# Altium integrated library JAE_WP66DK.IntLib: 2 symbols
Pins are listed as number, name and electrical type; pins without a type are passive.

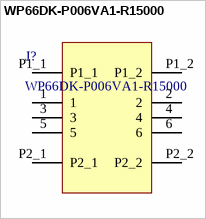
[diagram p0: symbol WP66DK-P006VA1-R15000]

## WP66DK-P006VA1-R15000
designator J?
6 Position Connector Plug, Outer Shroud Contacts Surface Mount Gold; Manufacturer_Name: JAE Electronics; Package: None; Price: None; Value: *; Manufacturer_Part_Number: WP66DK-P006VA1-R15000; Availability: Unavailable
footprint JAE_WP66DK-P006VA1-R15000
pins: 1, 2, 3, 4, 5, 6, P1_1 (power), P1_2 (power), P2_1 (power), P2_2 (power)


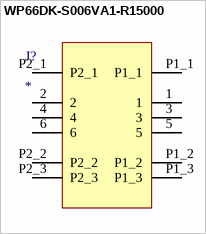
[diagram p1: symbol WP66DK-S006VA1-R15000]

## WP66DK-S006VA1-R15000
designator J?
6 Position Connector Receptacle, Center Strip Contacts Surface Mount Gold; Manufacturer_Name: JAE Electronics; Manufacturer_Part_Number: WP66DK-S006VA1-R15000; SnapEDA_Link: https://www.snapeda.com/parts/WP66DK-S006VA1-R15000/JAE+Electronics/view-part/?ref=snap; Package: None; Value: *; Check_prices: https://www.snapeda.com/parts/WP66DK-S006VA1-R15000/JAE+Electronics/view-part/?ref=eda
footprint JAE_WP66DK-S006VA1-R15000
pins: 1, 2, 3, 4, 5, 6, P1_1 (power), P1_2 (power), P1_3 (power), P2_1 (power), P2_2 (power), P2_3 (power)